# EAGLE library part RS485 (library RS485)
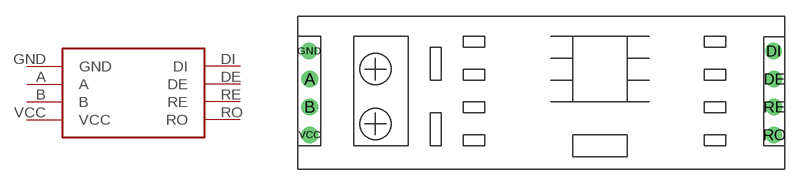
[diagram p0: symbol with the pads of RS485; footprint RS485]

Designator prefix -

## RS485  [RS485]
A  A
B  B
DE  DE
DI  DI
GND  GND
RE  RE
RO  RO
VCC  VCC

## Footprint RS485 (pad centres in mm)
drill 1: A -4,-1.9; B -4,-4.45; DE 38.4,-1.9; DI 38.35,0.65; GND -4.05,0.65; RE 38.4,-4.45; RO 38.4,-7; VCC -4,-7